# EAGLE library part 33OHM_ARR_4 (library Passives)
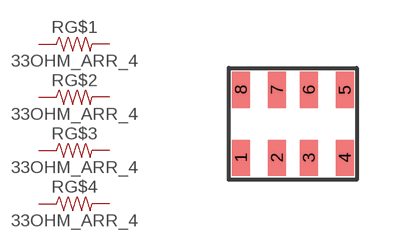
[diagram p0: symbol with the pads of RES_ARRAY_4; footprint RES_ARRAY_4]

Designator prefix R; gates G$1=RESISTOR G$2=RESISTOR G$3=RESISTOR G$4=RESISTOR

## 33OHM_ARR_4 (DEVICE: 33OHM-4ARR-1%-62.5mw; MFG: Bourns; PN: CAY16-33R0F4LF)  [RES_ARRAY_4]
1  G$1:1  pas
2  G$2:1  pas
3  G$3:1  pas
4  G$4:1  pas
5  G$4:2  pas
6  G$3:2  pas
7  G$2:2  pas
8  G$1:2  pas

## Footprint RES_ARRAY_4 (pad centres in mm)
smd 0.45 x 0.9: 1 -1.3,-0.85; 2 -0.4,-0.85; 3 0.4,-0.85; 4 1.3,-0.85; 5 1.3,0.85; 6 0.4,0.85; 7 -0.4,0.85; 8 -1.3,0.85